# Altium schematic symbol library 505567-0781.SchLib: 1 symbol
Pins are listed as number, name and electrical type; pins without a type are passive.

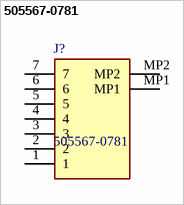
[diagram p0: symbol 505567-0781]

## 505567-0781
designator J?
Headers & Wire Housings MicroLockPlus 1.25MM RA HDR SR 7P BLK GLD; Manufacturer_Name: Molex; Geometry.Height: 4.4mm; Mouser Part Number: 538-505567-0781; Mouser Price/Stock: https://www.mouser.co.uk/ProductDetail/Molex/505567-0781?qs=gt1LBUVyoHk9Rz%2FclhSEPw%3D%3D; Manufacturer_Part_Number: 505567-0781; Datasheet Link: *
footprint 5055670781
pins: 1, 2, 3, 4, 5, 6, 7, MP1, MP2